# EAGLE library part A044-1532M1 (library saw-filters-narrowband)
A044-1532M1 Параметр Ед. изм. Мин. значение Тип. значение Макс. значение Центральная частота МГц 1530 1532 1534 Минимальное вносимое затухание дБ 1.6 1.8 2.1 Полоса среза по уровню -3 дБ МГц 70 72 - Полоса среза по уровню -30 дБ МГц 102 103 106 Неравномерность АЧХ дБ 0.8 1 1.5 Групповое время задержки нс - 15 - Гарантированное затухание дБ - 30 - Температурный диапазон °C -55 22 +85 Материал подложки - - Ниобат лития 64 - Разработан: ООО"АЭК Дизайн" Серийное производство: ООО"АЭК
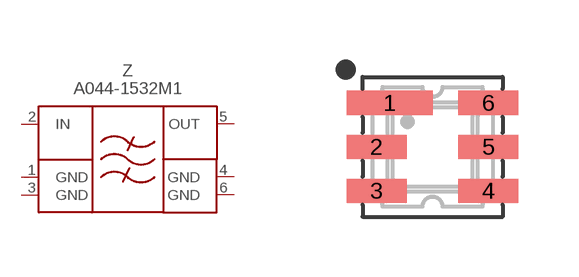
[diagram p14: symbol with the pads of DCC6; footprint DCC6]

Designator prefix Z

## A044-1532M1  [DCC6]
1  GND  pwr
2  IN  in
3  GND  pwr
4  GND  pwr
5  OUT  out
6  GND  pwr

## Footprint DCC6 (pad centres in mm)
smd 2.15 x 0.6: 1 -1.075,1.1
smd 1.5 x 0.6: 2 -1.4,0; 3 -1.4,-1.1; 4 1.4,-1.1; 5 1.4,0; 6 1.4,1.1